# Altium schematic symbol library symbols.SchLib: 29 symbols
Pins are listed as number, name and electrical type; pins without a type are passive.

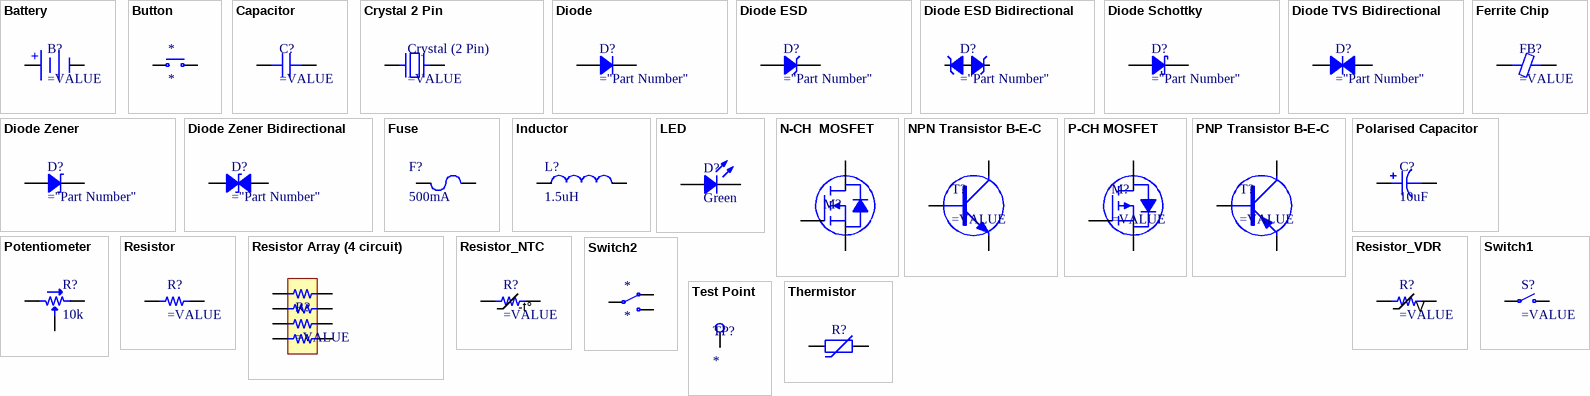
[diagram p0: symbols Battery to Thermistor]

## Battery
designator B?
Battery
pins: 1 +, 2 -

## Button
designator *
pins: 1 COM, 2 N.O

## Capacitor
designator C?
Non-Polarised Capacitor
pins: 1, 2

## Crystal 2 Pin
designator Crystal (2 Pin)
Crystal
pins: 1, 2

## Diode
designator D?
Rectifier Diode
pins: A, K

## Diode ESD
designator D?
Zener Diode
pins: A, K

## Diode ESD Bidirectional
designator D?
Zener Diode
pins: 1 A, 2

## Diode Schottky
designator D?
Schottkey Diode
pins: A, K

## Diode TVS Bidirectional
designator D?
Bidirectional Zener Diode
pins: 1, 2

## Diode Zener
designator D?
Zener Diode
pins: 1, 2

## Diode Zener Bidirectional
designator D?
Bidirectional Zener Diode
pins: 1, 2

## Ferrite Chip
designator FB?
Ferrite Chip
pins: 1, 2

## Fuse
designator F?, comment 500mA
Fuse; Value: 500mA
pins: 1, 2

## Inductor
designator L?, comment 1.5uH
Inductor; Value: 1.5uH
pins: 1, 2

## LED
designator D?, comment Green
Chip LED; Value: Green
pins: 1, 2

## N-CH  MOSFET
designator M?
N-CH  MOSFET
pins: D, G, S

## NPN Transistor B-E-C
designator T?
NPN Transistor B-E-C
pins: B, C, E

## P-CH MOSFET
designator M?
P-CH MOSFET
pins: D, G, S

## PNP Transistor B-E-C
designator T?
PNP Transistor B-E-C
pins: B, C, E

## Polarised Capacitor
designator C?, comment 10uF
Polarised Capacitor; Value: 10uF
pins: 1, 2

## Potentiometer
designator R?, comment 10k
Potentiometer; Value: 10k
pins: 1, 2, 3

## Resistor
designator R?
Resistor
pins: 1, 2

## Resistor Array (4 circuit)
designator R?
Resistor Array
pins: 1, 2, 3, 4, 5, 6, 7, 8

## Resistor_NTC
designator R?
NTC
pins: 1, 2
text: -t°

## Resistor_VDR
designator R?
VDR
pins: 1, 2
text: V

## Switch1
designator S?
pins: 1, 2

## Switch2
designator *
pins: 1, 2, 3

## Test Point
designator TP?
Test Point
pins: 1 TP

## Thermistor
designator R?
SMT Resistor; Value: ="Resistance in Ohms @ 25C"
pins: 1, 2